# Altium schematic symbol library RES 56.2k 1_10W.Schlib: 1 symbol
Pins are listed as number, name and electrical type; pins without a type are passive.

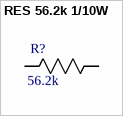
[diagram p0: symbol RES 56.2k 1/10W]

## RES 56.2k 1/10W
designator R?, comment 56.2k
RES SMD 56.2K OHM 1% 1/10W 0603; Power (Watts): 0.1W; Package: 0603; Value: 56.2k; Tolerance: 1%
footprint 0603
footprint 0805
pins: 1 R1, 2 R2